# Altium integrated library L298N.IntLib: 2 symbols
Pins are listed as number, name and electrical type; pins without a type are passive.

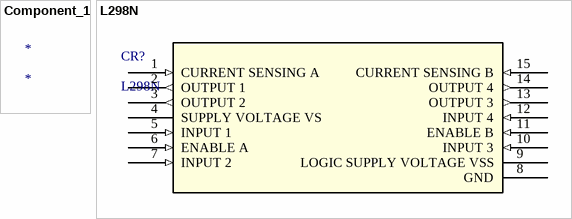
[diagram p0: symbols Component_1 to L298N]

## Component_1
designator *

## L298N
designator CR?
No Description Available; SourceLibrary: Updates_to_database_2020-11-02; Built_By: EMA_UL_Team; Vendor: STMicroelectronics; Type: DEV; Manufacturer_Part_Number: L298N; Copyright: Copyright (C) 2018 Accelerated Designs. All rights reserved; RefDes: RefDes
footprint Multiwatt15_V_STM
pins: 1 CURRENT SENSING A (in), 2 OUTPUT 1 (out), 3 OUTPUT 2 (out), 4 SUPPLY VOLTAGE VS (power), 5 INPUT 1 (in), 6 ENABLE A (in), 7 INPUT 2 (in), 8 GND, 9 LOGIC SUPPLY VOLTAGE VSS (power), 10 INPUT 3 (in), 11 ENABLE B (in), 12 INPUT 4 (in), 13 OUTPUT 3 (out), 14 OUTPUT 4 (out), 15 CURRENT SENSING B (in)